# Altium schematic symbol library CRCW040210K0FKED.SchLib: 1 symbol
Pins are listed as number, name and electrical type; pins without a type are passive.

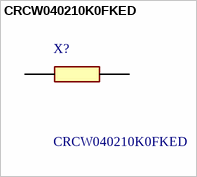
[diagram p0: symbol CRCW040210K0FKED]

## CRCW040210K0FKED
designator X?
CRCW0402 Resistor T/R 0.063W,1%,10K Vishay CRCW Series Thick Film Surface Mount Resistor 0402 Case 10k +/-1% 0.063W +/-100ppm/C; Geometry.Height: 0.4mm; Manufacturer_Name: Vishay; Manufacturer_Part_Number: CRCW040210K0FKED; Mouser Part Number: 71-CRCW0402-10K-E3; Mouser Price/Stock: https://www.mouser.co.uk/ProductDetail/Vishay-Dale/CRCW040210K0FKED?qs=rlE3Te1NifyN3e8vvxacSw%3D%3D; Arrow Part Number: CRCW040210K0FKED; Arrow Price/Stock: https://www.arrow.com/en/products/crcw040210k0fked/vishay?region=nac; Datasheet Link: http://www.vishay.com/docs/20035/dcrcwe3.pdf
footprint RESC1005X40N
pins: 1, 2